# EAGLE library part MCF51CN128CLK (library freescaleic)
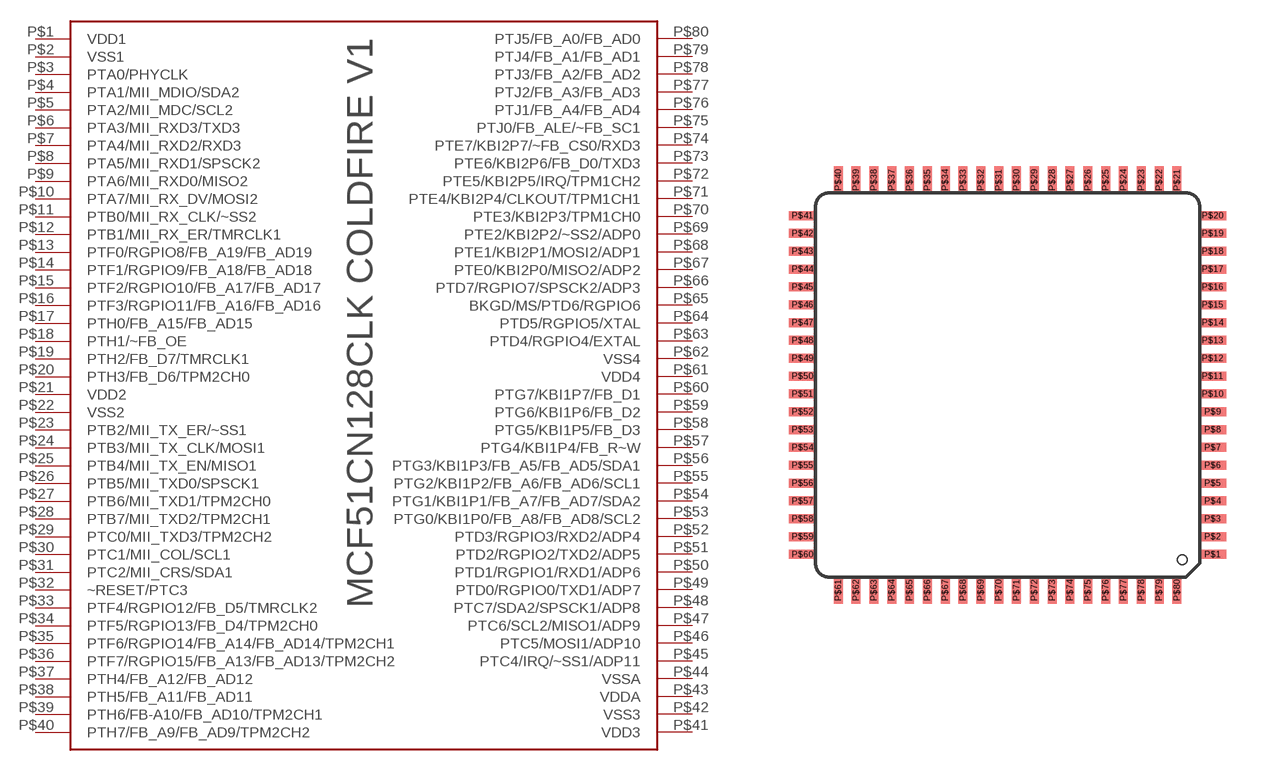
[diagram p0: symbol with the pads of 80PINLQFP; footprint 80PINLQFP]

Designator prefix -

## MCF51CN128CLK  [80PINLQFP]
P$1  VDD1
P$2  VSS1
P$3  PTA0/PHYCLK
P$4  PTA1/MII_MDIO/SDA2
P$5  PTA2/MII_MDC/SCL2
P$6  PTA3/MII_RXD3/TXD3
P$7  PTA4/MII_RXD2/RXD3
P$8  PTA5/MII_RXD1/SPSCK2
P$9  PTA6/MII_RXD0/MISO2
P$10  PTA7/MII_RX_DV/MOSI2
P$11  PTB0/MII_RX_CLK/~SS2
P$12  PTB1/MII_RX_ER/TMRCLK1
P$13  PTF0/RGPIO8/FB_A19/FB_AD19
P$14  PTF1/RGPIO9/FB_A18/FB_AD18
P$15  PTF2/RGPIO10/FB_A17/FB_AD17
P$16  PTF3/RGPIO11/FB_A16/FB_AD16
P$17  PTH0/FB_A15/FB_AD15
P$18  PTH1/~FB_OE
P$19  PTH2/FB_D7/TMRCLK1
P$20  PTH3/FB_D6/TPM2CH0
P$21  VDD2
P$22  VSS2
P$23  PTB2/MII_TX_ER/~SS1
P$24  PTB3/MII_TX_CLK/MOSI1
P$25  PTB4/MII_TX_EN/MISO1
P$26  PTB5/MII_TXD0/SPSCK1
P$27  PTB6/MII_TXD1/TPM2CH0
P$28  PTB7/MII_TXD2/TPM2CH1
P$29  PTC0/MII_TXD3/TPM2CH2
P$30  PTC1/MII_COL/SCL1
P$31  PTC2/MII_CRS/SDA1
P$32  ~RESET/PTC3
P$33  PTF4/RGPIO12/FB_D5/TMRCLK2
P$34  PTF5/RGPIO13/FB_D4/TPM2CH0
P$35  PTF6/RGPIO14/FB_A14/FB_AD14/TPM2CH1
P$36  PTF7/RGPIO15/FB_A13/FB_AD13/TPM2CH2
P$37  PTH4/FB_A12/FB_AD12
P$38  PTH5/FB_A11/FB_AD11
P$39  PTH6/FB-A10/FB_AD10/TPM2CH1
P$40  PTH7/FB_A9/FB_AD9/TPM2CH2
P$41  VDD3
P$42  VSS3
P$43  VDDA
P$44  VSSA
P$45  PTC4/IRQ/~SS1/ADP11
P$46  PTC5/MOSI1/ADP10
P$47  PTC6/SCL2/MISO1/ADP9
P$48  PTC7/SDA2/SPSCK1/ADP8
P$49  PTD0/RGPIO0/TXD1/ADP7
P$50  PTD1/RGPIO1/RXD1/ADP6
P$51  PTD2/RGPIO2/TXD2/ADP5
P$52  PTD3/RGPIO3/RXD2/ADP4
P$53  PTG0/KBI1P0/FB_A8/FB_AD8/SCL2
P$54  PTG1/KBI1P1/FB_A7/FB_AD7/SDA2
P$55  PTG2/KBI1P2/FB_A6/FB_AD6/SCL1
P$56  PTG3/KBI1P3/FB_A5/FB_AD5/SDA1
P$57  PTG4/KBI1P4/FB_R~W
P$58  PTG5/KBI1P5/FB_D3
P$59  PTG6/KBI1P6/FB_D2
P$60  PTG7/KBI1P7/FB_D1
P$61  VDD4
P$62  VSS4
P$63  PTD4/RGPIO4/EXTAL
P$64  PTD5/RGPIO5/XTAL
P$65  BKGD/MS/PTD6/RGPIO6
P$66  PTD7/RGPIO7/SPSCK2/ADP3
P$67  PTE0/KBI2P0/MISO2/ADP2
P$68  PTE1/KBI2P1/MOSI2/ADP1
P$69  PTE2/KBI2P2/~SS2/ADP0
P$70  PTE3/KBI2P3/TPM1CH0
P$71  PTE4/KBI2P4/CLKOUT/TPM1CH1
P$72  PTE5/KBI2P5/IRQ/TPM1CH2
P$73  PTE6/KBI2P6/FB_D0/TXD3
P$74  PTE7/KBI2P7/~FB_CS0/RXD3
P$75  PTJ0/FB_ALE/~FB_SC1
P$76  PTJ1/FB_A4/FB_AD4
P$77  PTJ2/FB_A3/FB_AD3
P$78  PTJ3/FB_A2/FB_AD2
P$79  PTJ4/FB_A1/FB_AD1
P$80  PTJ5/FB_A0/FB_AD0

## Footprint 80PINLQFP (pad centres in mm)
smd 1 x 0.325: P$1 8.475,-6.8; P$2 8.475,-6.15; P$3 8.475,-5.5; P$4 8.475,-4.85; P$5 8.475,-4.2; P$6 8.475,-3.55; P$7 8.475,-2.9; P$8 8.475,-2.25; P$9 8.475,-1.6; P$10 8.475,-0.95; P$11 8.475,-0.3; P$12 8.475,0.35; P$13 8.475,1; P$14 8.475,1.65; P$15 8.475,2.3; P$16 8.475,2.95; P$17 8.475,3.6; P$18 8.475,4.25; P$19 8.475,4.9; P$20 8.475,5.55; P$41 -6.475,5.55; P$42 -6.475,4.9; P$43 -6.475,4.25; P$44 -6.475,3.6; P$45 -6.475,2.95; P$46 -6.475,2.3; P$47 -6.475,1.65; P$48 -6.475,1; P$49 -6.475,0.35; P$50 -6.475,-0.3; P$51 -6.475,-0.95; P$52 -6.475,-1.6; P$53 -6.475,-2.25; P$54 -6.475,-2.9; P$55 -6.475,-3.55; P$56 -6.475,-4.2; P$57 -6.475,-4.85; P$58 -6.475,-5.5; P$59 -6.475,-6.15; P$60 -6.475,-6.8
smd 0.325 x 1: P$21 7.175,6.85; P$22 6.525,6.85; P$23 5.875,6.85; P$24 5.225,6.85; P$25 4.575,6.85; P$26 3.925,6.85; P$27 3.275,6.85; P$28 2.625,6.85; P$29 1.975,6.85; P$30 1.325,6.85; P$31 0.675,6.85; P$32 0.025,6.85; P$33 -0.625,6.85; P$34 -1.275,6.85; P$35 -1.925,6.85; P$36 -2.575,6.85; P$37 -3.225,6.85; P$38 -3.875,6.85; P$39 -4.525,6.85; P$40 -5.175,6.85; P$61 -5.175,-8.1; P$62 -4.525,-8.1; P$63 -3.875,-8.1; P$64 -3.225,-8.1; P$65 -2.575,-8.1; P$66 -1.925,-8.1; P$67 -1.275,-8.1; P$68 -0.625,-8.1; P$69 0.025,-8.1; P$70 0.675,-8.1; P$71 1.325,-8.1; P$72 1.975,-8.1; P$73 2.625,-8.1; P$74 3.275,-8.1; P$75 3.925,-8.1; P$76 4.575,-8.1; P$77 5.225,-8.1; P$78 5.875,-8.1; P$79 6.525,-8.1; P$80 7.175,-8.1